# Altium schematic symbol library HEADER_1x2_NO_BOM.SchLib: 1 symbol
Pins are listed as number, name and electrical type; pins without a type are passive.

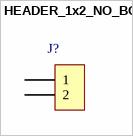
[diagram p0: symbol HEADER_1x2_NO_BOM]

## HEADER_1x2_NO_BOM
designator J?  (no BOM)
pins: 1, 2